# Altium footprint library Signetik-passives.PcbLib: 52 footprints (part 4 of 4)
Each footprint in its own frame and in the unit in brackets; x right, y up, seen from the top. Pads: shape width x height; smd on the part's side, far side on the other; paste and mask are expansions set on the pad; w line width, h text height; cw(c..) or ccw(c..) is an arc to the next point about the centre after c.
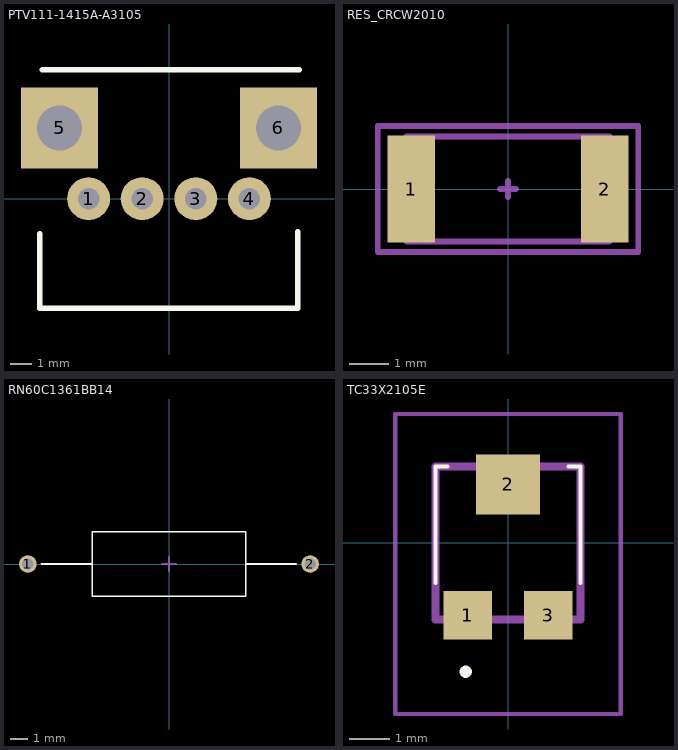
[diagram p3: the footprints below, top view; thin cyan lines are the x and y axes]

## PTV111-1415A-A3105 [mm]
pads (6):
  round 2 hole 1: 1(-3.75,0) 2(-1.25,0) 3(1.25,0) 4(3.75,0)
  rect 3.6x3.78 hole 2.1 square: 5(-5.1,3.3) 6(5.1,3.3)
Top Overlay:
  lines w0.254: -6.02,-1.626 -6.02,-5.1 5.994,-5.1 5.994,-1.549 ; -5.918,6 6.071,6
3D body "ptv111-1x15a.stp": height 16.76, standoff -3.94, extent -6.049,-19.219 6.05,5.881

## RES_CRCW2010 [mm]
pads (2):
  rect 1.2x2.7 smd: 1(-2.45,0) 2(2.45,0)
Top Assembly:
  lines w0.15: -2.575,-1.325 -2.575,1.325 2.575,1.325 2.575,-1.325 -2.575,-1.325
Top Courtyard:
  lines w0.15: -3.3,-1.6 -3.3,1.6 3.3,1.6 3.3,-1.6 -3.3,-1.6
Top Component Center:
  lines w0.15: -0.2,0 0.2,0 ; 0,-0.2 0,0.2
3D body "RC2010N_VIS.step": height 0.71, standoff 0, extent -2.5,-1.25 2.5,1.25

## RN60C1361BB14 [mm] "1.36K Ohm +-0.1% 0.25W through-hole resistor"
height 3.7
pads (2):
  round 1 hole 0.64 unplated: 1(-8.05,0) 2(8.05,0)
Top Overlay:
  lines w0.1: -7.275,0 -4.37,0 ; 4.37,0 7.25,0 ; -4.37,-1.84 -4.37,1.84 4.37,1.84 4.37,-1.84 -4.37,-1.84
Top Component Center:
  lines w0.1: -0.4,0 0,0 ; 0,-0.4 0,0 ; 0,0.4 0,0 ; 0.4,0 0,0
3D body: height 3.74, standoff 0.06, extent -4.375,-1.8 4.375,1.88

## TC33X2105E [mm]
pads (3):
  rect 1.2x1.2 smd: 1(-1,-1.8) 3(1,-1.8)
  rect 1.6x1.5 smd: 2(0,1.45)
Top Overlay:
  lines w0.1: -1.8,1.9 -1.5,1.9 -1.8,1.9 ; -1.8,1.9 -1.8,-1 -1.8,1.9 ; 1.8,1.9 1.8,-1 1.8,1.9 ; 1.8,1.9 1.5,1.9 1.8,1.9
  lines w0.2: -1.1,-3.2 ccw(c-1.05,-3.2) -1,-3.2 ; -1.1,-3.2 cw(c-1.05,-3.2) -1,-3.2 ; -1.1,-3.2 ccw(c-1.05,-3.2) -1,-3.2
Mechanical 13:
  lines w0.2: -1.8,-1.9 1.8,-1.9 1.8,1.9 -1.8,1.9 -1.8,-1.9
Mechanical 15:
  lines w0.1: -2.8,-4.25 2.8,-4.25 2.8,3.2 -2.8,3.2 -2.8,-4.25
3D body "TC-33X-2.stp": height 1.13, standoff -0.02, extent -1.8,-1.913 1.8,2.05